# EAGLE library part DRV8824QPWPRQ1 (library DRV8824QPWPRQ1)
Automotive 1.6A Bipolar Stepper Motor Driver with On-Chip 1/32 Microstepping Indexer (Step/Dir Ctrl) Source: Datasheet <http://www.ti.com/lit/gpn/drv8824-q1>
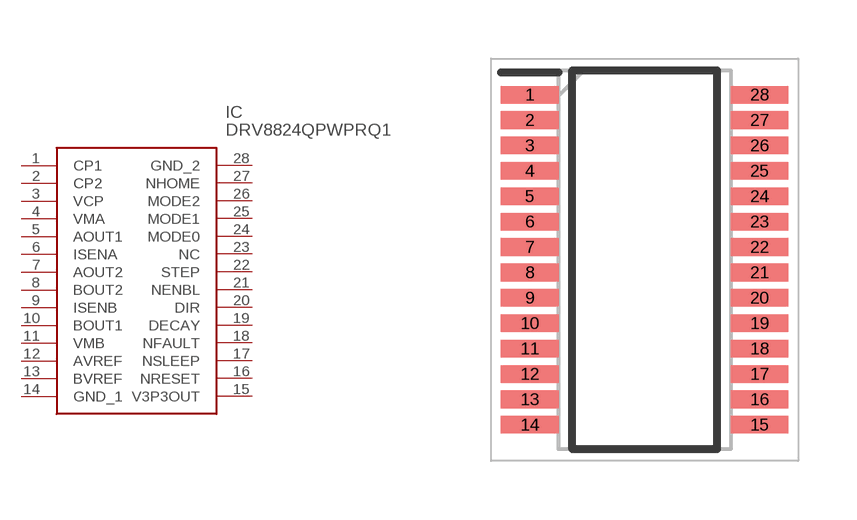
[diagram p0: symbol with the pads of SOP65P640X120-28N; footprint SOP65P640X120-28N]

Designator prefix IC

## DRV8824QPWPRQ1 (Description: Automotive 1.6A Bipolar Stepper Motor Driver with On-Chip 1/32 Microstepping Indexer (Step/Dir Ctrl); Height: 1.2mm; Manufacturer_Name: Texas Instruments; Manufacturer_Part_Number: DRV8824QPWPRQ1; Mouser_Part_Number: 595-DRV8824QPWPRQ1; Mouser_Price-Stock: https://www.mouser.co.uk/ProductDetail/Texas-Instruments/DRV8824QPWPRQ1?qs=MJut%252BdqOEgi82YN%2FoMkwBg%3D%3D)  [SOP65P640X120-28N]
1  CP1
2  CP2
3  VCP
4  VMA
5  AOUT1
6  ISENA
7  AOUT2
8  BOUT2
9  ISENB
10  BOUT1
11  VMB
12  AVREF
13  BVREF
14  GND_1
15  V3P3OUT
16  NRESET
17  NSLEEP
18  NFAULT
19  DECAY
20  DIR
21  NENBL
22  STEP
23  NC  nc
24  MODE0
25  MODE1
26  MODE2
27  NHOME
28  GND_2

## Footprint SOP65P640X120-28N (pad centres in mm)
tssop-28
smd 1.475 x 0.45: 1 -2.938,4.225; 2 -2.938,3.575; 3 -2.938,2.925; 4 -2.938,2.275; 5 -2.938,1.625; 6 -2.938,0.975; 7 -2.938,0.325; 8 -2.938,-0.325; 9 -2.938,-0.975; 10 -2.938,-1.625; 11 -2.938,-2.275; 12 -2.938,-2.925; 13 -2.938,-3.575; 14 -2.938,-4.225; 15 2.938,-4.225; 16 2.938,-3.575; 17 2.938,-2.925; 18 2.938,-2.275; 19 2.938,-1.625; 20 2.938,-0.975; 21 2.938,-0.325; 22 2.938,0.325; 23 2.938,0.975; 24 2.938,1.625; 25 2.938,2.275; 26 2.938,2.925; 27 2.938,3.575; 28 2.938,4.225